# EAGLE library part PORT_CASSETTE_CONN (library commodore)
edge connector used in variuos Commodores for connecting a Commodore taperecorder
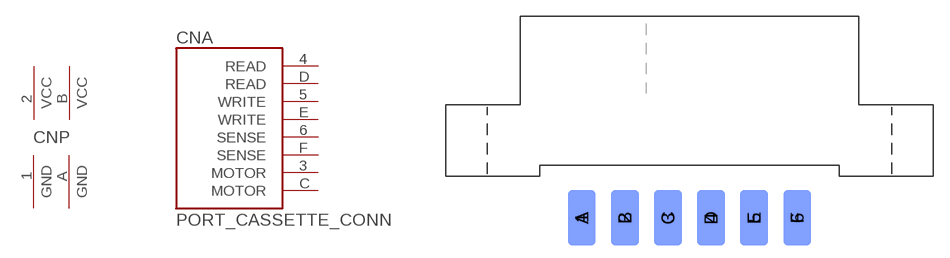
[diagram p35: symbol with the pads of MA156_6-2_SHORT; footprint MA156_6-2_SHORT]

Designator prefix CN; gates A=PORT_CASSETTE_CONN P=PWR2-GND2

## PORT_CASSETTE_CONN  [MA156_6-2_SHORT]
1  P:GND  pwr
2  P:VCC  pwr
3  A:MOTOR  in
4  A:READ  out
5  A:WRITE  in
6  A:SENSE  out
A  P:GND  pwr
B  P:VCC  pwr
C  A:MOTOR  in
D  A:READ  pas
E  A:WRITE  in
F  A:SENSE  pas

## Footprint MA156_6-2_SHORT (pad centres in mm)
smd 2.54 x 5.08: 1 -9.906,0; 2 -5.944,0; 3 -1.981,0; 4 1.981,0; 5 5.944,0; 6 9.906,0
smd 2.54 x 5.08 bottom: A -9.906,0; B -5.944,0; C -1.981,0; D 1.981,0; E 5.944,0; F 9.906,0